# Altium footprint library fiducial.PcbLib: 10 footprints
Each footprint in its own frame and in the unit in brackets; x right, y up, seen from the top. Pads: shape width x height; smd on the part's side, far side on the other; paste and mask are expansions set on the pad; w line width, h text height; cw(c..) or ccw(c..) is an arc to the next point about the centre after c.
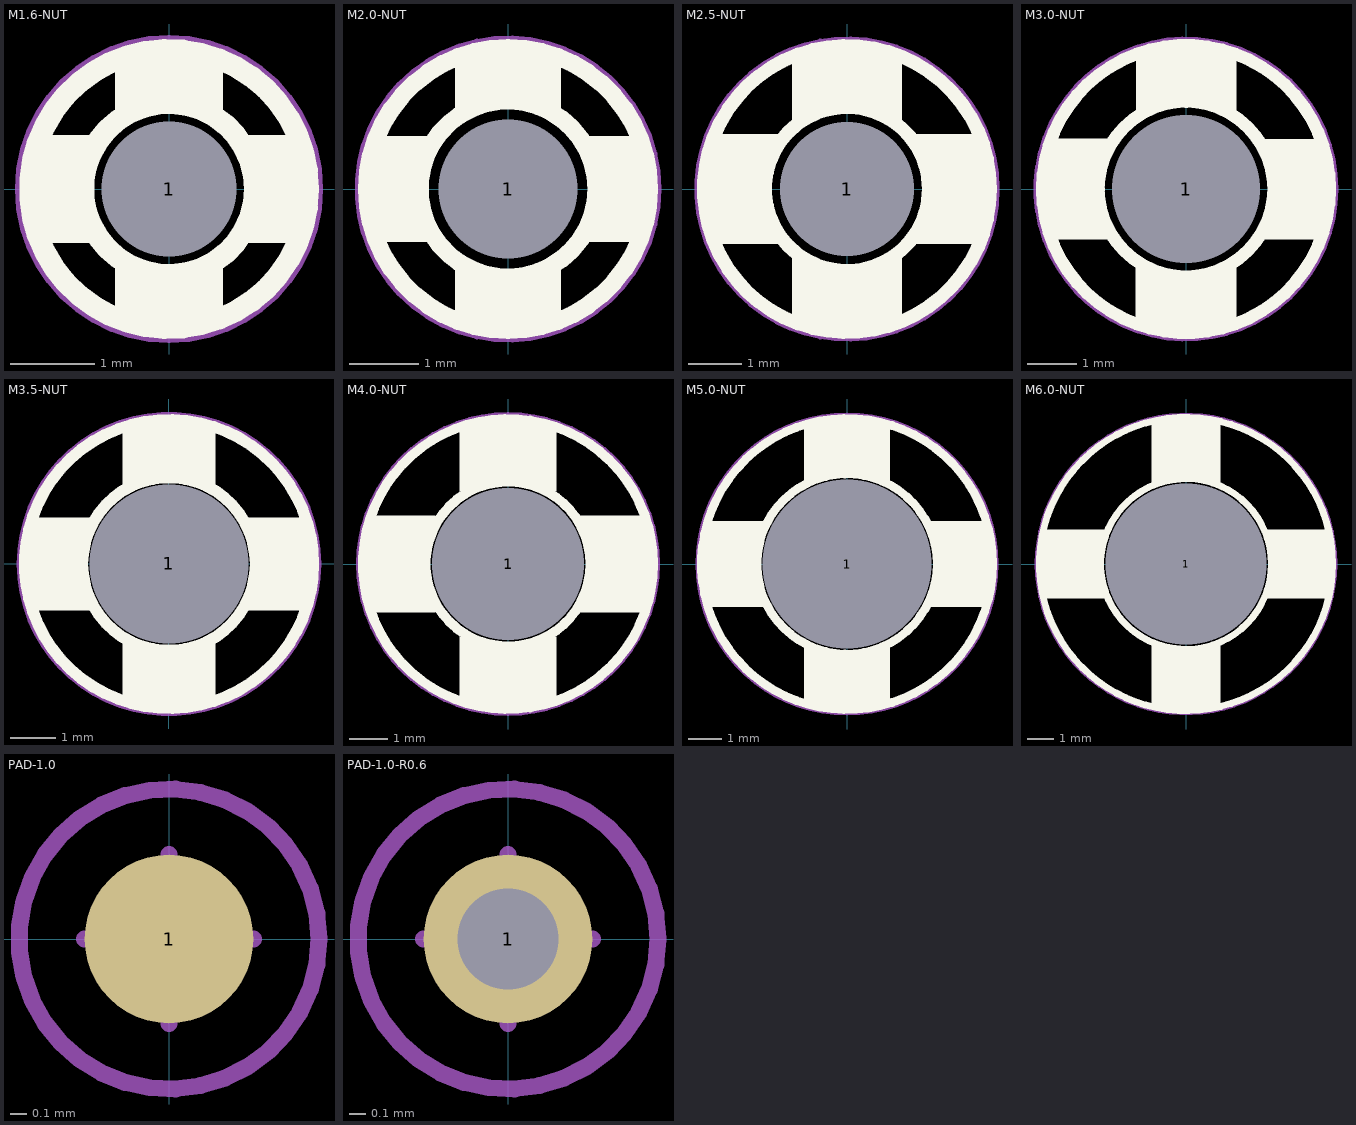
[diagram p0: the footprints below, top view; thin cyan lines are the x and y axes]

## M1.6-NUT [mm]
pads (1):
  round 0.5 hole 1.6: 1(0,0)
Top Overlay:
  circle w0.254: c0,0 r1.016
  circle w0.254: c0,0 r1.651
  region: 0.635,0.889 0,1.016 -0.635,0.889 -0.635,1.524 0,1.651 0.635,1.524
  region: 0.889,-0.635 1.016,0 0.889,0.635 1.524,0.635 1.651,0 1.524,-0.635
  region: -0.635,-0.889 0,-1.016 0.635,-0.889 0.635,-1.524 0,-1.651 -0.635,-1.524
  region: -0.889,0.635 -1.016,0 -0.889,-0.635 -1.524,-0.635 -1.651,0 -1.524,0.635
Mechanical 13:
  circle w0.1: c0,0 r1.778
  text "M1.6" at -1.27,-0.381 h0.8
Mechanical 15:
  circle w0.05: c0,0 r1.778
  lines w0.1: -0.5,0 0.5,0 ; 0,-0.5 0,0.5

## M2.0-NUT [mm]
pads (1):
  round 0.5 hole 2: 1(0,0)
Top Overlay:
  circle w0.254: c0,0 r2.032
  circle w0.254: c0,0 r1.27
  region: -1.016,0.762 -1.27,0 -1.016,-0.762 -1.905,-0.762 -2.032,0 -1.905,0.762
  region: -0.762,-1.016 0,-1.27 0.762,-1.016 0.762,-1.905 0,-2.032 -0.762,-1.905
  region: 1.016,-0.762 1.27,0 1.016,0.762 1.905,0.762 2.032,0 1.905,-0.762
  region: 0.762,1.016 0,1.27 -0.762,1.016 -0.762,1.905 0,2.032 0.762,1.905
Mechanical 13:
  circle w0.1: c0,0 r2.159
  text "M2" at -1.27,-0.762 h1.52
Mechanical 15:
  circle w0.05: c0,0 r2.159
  lines w0.1: -0.5,0 0.5,0 ; 0,-0.5 0,0.5

## M2.5-NUT [mm]
pads (1):
  round 0.5 hole 2.5: 1(0,0)
Top Overlay:
  circle w0.254: c0,0 r1.524
  circle w0.254: c0,0 r2.667
  region: 1.016,1.27 0,1.524 -1.016,1.27 -1.016,2.413 0,2.667 1.016,2.413
  region: 1.27,-1.016 1.524,0 1.27,1.016 2.413,1.016 2.667,0 2.413,-1.016
  region: -1.016,-1.27 0,-1.524 1.016,-1.27 1.016,-2.413 0,-2.667 -1.016,-2.413
  region: -1.27,1.016 -1.524,0 -1.27,-1.016 -2.413,-1.016 -2.667,0 -2.413,1.016
Mechanical 13:
  circle w0.1: c0,0 r2.794
  text "M2.5" at -2.159,-0.635 h1.25
Mechanical 15:
  circle w0.05: c0,0 r2.794
  lines w0.1: -0.5,0 0.5,0 ; 0,-0.5 0,0.5

## M3.0-NUT [mm]
pads (1):
  round 0.5 hole 3: 1(0,0)
Top Overlay:
  circle w0.254: c0,0 r2.921
  circle w0.254: c0,0 r1.778
  region: 1.016,1.524 0,1.778 -1.016,1.524 -1.016,2.667 0,2.921 1.016,2.667
  region: 1.524,-1.016 1.778,0 1.524,1.016 2.667,1.016 2.921,0 2.667,-1.016
  region: -1.016,-1.524 0,-1.778 1.016,-1.524 1.016,-2.667 0,-2.921 -1.016,-2.667
  region: -1.524,1.016 -1.778,0 -1.524,-1.016 -2.667,-1.016 -2.921,0 -2.667,1.016
Mechanical 13:
  circle w0.1: c0,0 r3.048
  text "M3" at -1.905,-1.143 h2.3
Mechanical 15:
  circle w0.05: c0,0 r3.048
  lines w0.1: -0.5,0 0.5,0 ; 0,-0.5 0,0.5

## M3.5-NUT [mm]
pads (1):
  round 0.5 hole 3.5: 1(0,0)
Top Overlay:
  circle w0.254: c0,0 r1.905
  circle w0.254: c0,0 r3.175
  region: -1.651,1.016 -1.905,0 -1.651,-1.016 -3.048,-1.016 -3.175,0 -3.048,1.016
  region: -1.016,-1.651 0,-1.905 1.016,-1.651 1.016,-3.048 0,-3.175 -1.016,-3.048
  region: 1.651,-1.016 1.905,0 1.651,1.016 3.048,1.016 3.175,0 3.048,-1.016
  region: 1.016,1.651 0,1.905 -1.016,1.651 -1.016,3.048 0,3.175 1.016,3.048
Mechanical 13:
  circle w0.1: c0,0 r3.302
  text "M3.5" at -2.667,-0.762 h1.5
Mechanical 15:
  circle w0.05: c0,0 r3.302
  lines w0.1: -0.5,0 0.5,0 ; 0,-0.5 0,0.5

## M4.0-NUT [mm]
pads (1):
  round 0.5 hole 4: 1(0,0)
Top Overlay:
  circle w0.254: c0,0 r2.159
  circle w0.254: c0,0 r3.81
  region: 1.27,1.905 0,2.159 -1.27,1.905 -1.27,3.556 0,3.81 1.27,3.556
  region: 1.905,-1.27 2.159,0 1.905,1.27 3.556,1.27 3.81,0 3.556,-1.27
  region: -1.27,-1.905 0,-2.159 1.27,-1.905 1.27,-3.556 0,-3.81 -1.27,-3.556
  region: -1.905,1.27 -2.159,0 -1.905,-1.27 -3.556,-1.27 -3.81,0 -3.556,1.27
Mechanical 13:
  circle w0.1: c0,0 r3.937
  text "M4" at -2.54,-1.524 h3
Mechanical 15:
  circle w0.05: c0,0 r3.937
  lines w0.1: -0.5,0 0.5,0 ; 0,-0.5 0,0.5

## M5.0-NUT [mm]
pads (1):
  round 0.5 hole 5: 1(0,0)
Top Overlay:
  circle w0.254: c0,0 r4.318
  circle w0.254: c0,0 r2.67
  region: 1.27,2.413 0,2.667 -1.27,2.413 -1.27,4.064 0,4.318 1.27,4.064
  region: 2.413,-1.27 2.667,0 2.413,1.27 4.064,1.27 4.318,0 4.064,-1.27
  region: -1.27,-2.413 0,-2.667 1.27,-2.413 1.27,-4.064 0,-4.318 -1.27,-4.064
  region: -2.413,1.27 -2.667,0 -2.413,-1.27 -4.064,-1.27 -4.318,0 -4.064,1.27
Mechanical 13:
  circle w0.1: c0,0 r4.447
  text "M5" at -2.54,-1.524 h3
Mechanical 15:
  circle w0.05: c0,0 r4.445
  lines w0.1: -0.5,0 0.5,0 ; 0,-0.5 0,0.5

## M6.0-NUT [mm]
pads (1):
  round 0.5 hole 6: 1(0,0)
Top Overlay:
  circle w0.254: c0,0 r5.462
  circle w0.254: c0,0 r3.178
  region: -2.921,1.27 -3.175,0 -2.921,-1.27 -5.334,-1.27 -5.461,0 -5.334,1.27
  region: -1.27,-2.921 0,-3.175 1.27,-2.921 1.27,-5.334 0,-5.461 -1.27,-5.334
  region: 2.921,-1.27 3.175,0 2.921,1.27 5.334,1.27 5.461,0 5.334,-1.27
  region: 1.27,2.921 0,3.175 -1.27,2.921 -1.27,5.334 0,5.461 1.27,5.334
Mechanical 13:
  circle w0.1: c0,0 r5.588
  text "M6" at -2.54,-1.524 h3
Mechanical 15:
  circle w0.05: c0,0 r5.588
  lines w0.1: -0.5,0 0.5,0 ; 0,-0.5 0,0.5

## PAD-1.0 [mm]
pads (1):
  round 1 smd: 1(0,0)
Mechanical 13:
  circle w0.1: c0,0 r0.889
  text ".Designator" at -0.508,-0.381 h0.7
Mechanical 15:
  circle w0.05: c0,0 r0.889
  lines w0.1: -0.5,0 0.5,0 ; 0,-0.5 0,0.5

## PAD-1.0-R0.6 [mm]
pads (1):
  round 1 hole 0.6: 1(0,0)
Mechanical 13:
  circle w0.1: c0,0 r0.889
  text ".Designator" at -0.508,-0.381 h0.7
Mechanical 15:
  circle w0.05: c0,0 r0.889
  lines w0.1: -0.5,0 0.5,0 ; 0,-0.5 0,0.5